# Altium schematic symbol library Antenna_915Mhz.SCHLIB: 3 symbols
Pins are listed as number, name and electrical type; pins without a type are passive.

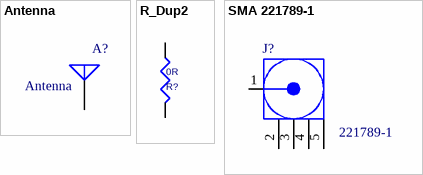
[diagram p0: symbols Antenna to SMA 221789-1]

## Antenna
designator A?
PCB Antenna
footprint PIN1 (Generic Antenna; 1 Lead)
footprint LoRa Ant
pins: 1 A

## R_Dup2
designator R?, comment 0R
SMT PART 0603
footprint RESC1608L
footprint RESC1608N
pins: 1, 2

## SMA 221789-1
designator J?, comment 221789-1
CONN SMA JACK STR 50 OHM PCB; Supplier 1: Digi-Key; Supplier Part Number 1: A24691-ND
footprint SMA 221789-1
pins: 1 X "Signal Pin", 2 G (power), 3 G (power), 4 G (power), 5 G (power)